# Altium schematic symbol library Multilayer Radial Ceramic PTH Capacitors.SchLib: 1 symbol
Pins are listed as number, name and electrical type; pins without a type are passive.

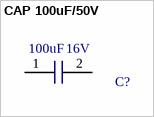
[diagram p0: symbol CAP 100uF/50V]

## CAP 100uF/50V
designator C?  Capacitance: 100uF  Voltage: 16V  (hidden comment: CAP 100uF/50V)
100µF ±20% 50V Ceramic Capacitor X7R Radial; Manufacturer 1: Samsung Electro-Mechanics; Manufacturer 1 PN: CL21A106KOQNNWE; Mouser PN: 710-885012107014; Digikey PN: 1276-2894-1-ND; ComponentLink1Description: Datasheet; ComponentLink1URL: http://www.chemi-con.co.jp/e/catalog/pdf/ce-e/ce-sepa-e/ce-ntd-e-2018.pdf
pins: 1, 2